# Altium footprint library Silicon Die Holders.PcbLib: 17 footprints (part 1 of 2)
Each footprint in its own frame and in the unit in brackets; x right, y up, seen from the top. Pads: shape width x height; smd on the part's side, far side on the other; paste and mask are expansions set on the pad; w line width, h text height; cw(c..) or ccw(c..) is an arc to the next point about the centre after c.
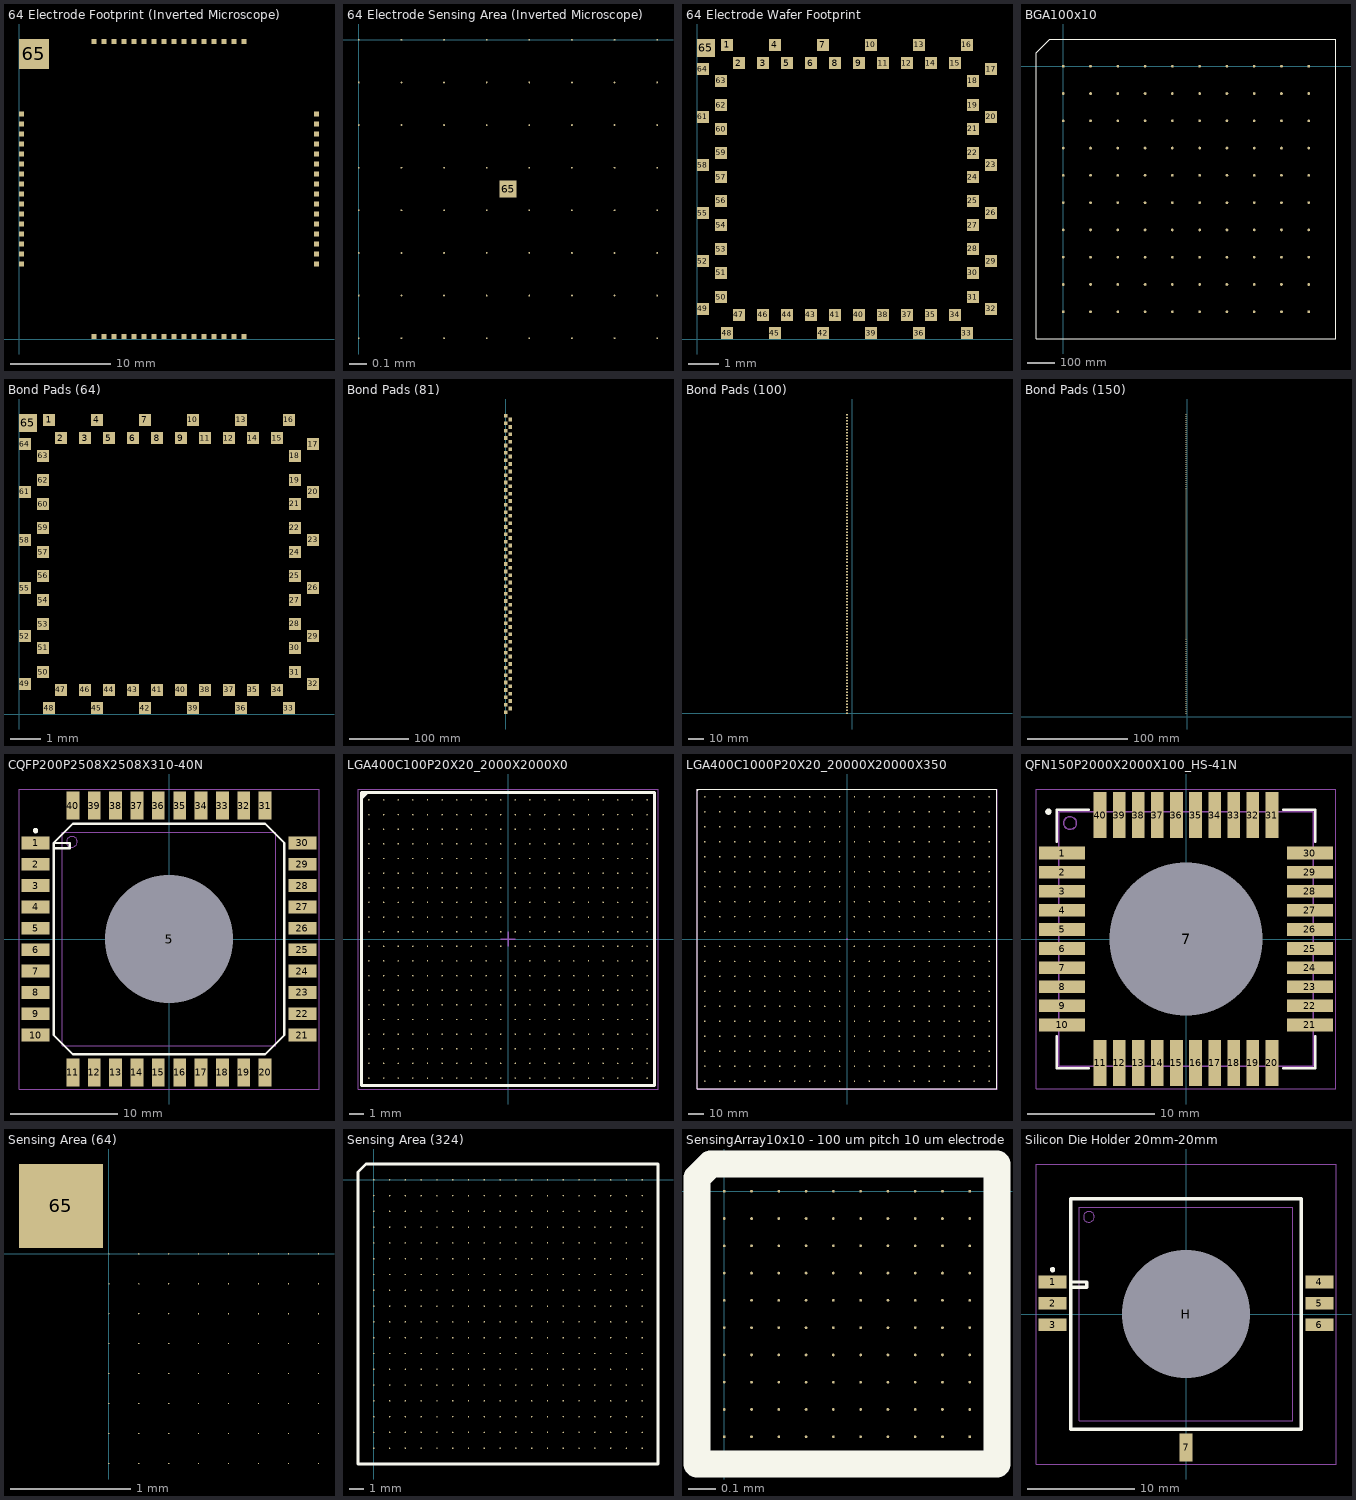
[diagram p0: the footprints below, top view; thin cyan lines are the x and y axes]

## 64 Electrode Footprint (Inverted Microscope) [mm]
pads (65):
  rect 0.5x0.5 smd mask+0: 1(7.5,29.75) 2(8.5,29.75) 3(9.5,29.75) 4(10.5,29.75) 5(11.5,29.75) 6(12.5,29.75) 7(13.5,29.75) 8(14.5,29.75) 9(15.5,29.75) 10(16.5,29.75) 11(17.5,29.75) 12(18.5,29.75) 13(19.5,29.75) 14(20.5,29.75) 15(21.5,29.75) 16(22.5,29.75) 17(29.75,22.5) 18(29.75,21.5) 19(29.75,20.5) 20(29.75,19.5) 21(29.75,18.5) 22(29.75,17.5) 23(29.75,16.5) 24(29.75,15.5) 25(29.75,14.5) 26(29.75,13.5) 27(29.75,12.5) 28(29.75,11.5) 29(29.75,10.5) 30(29.75,9.5) 31(29.75,8.5) 32(29.75,7.5) 33(22.5,0.25) 34(21.5,0.25) 35(20.5,0.25) 36(19.5,0.25) 37(18.5,0.25) 38(17.5,0.25) 39(16.5,0.25) 40(15.5,0.25) 41(14.5,0.25) 42(13.5,0.25) 43(12.5,0.25) 44(11.5,0.25) 45(10.5,0.25) 46(9.5,0.25) 47(8.5,0.25) 48(7.5,0.25) 49(0.25,7.5) 50(0.25,8.5) 51(0.25,9.5) 52(0.25,10.5) 53(0.25,11.5) 54(0.25,12.5) 55(0.25,13.5) 56(0.25,14.5) 57(0.25,15.5) 58(0.25,16.5) 59(0.25,17.5) 60(0.25,18.5) 61(0.25,19.5) 62(0.25,20.5) 63(0.25,21.5) 64(0.25,22.5)
  rect 3x3 smd mask+0: 65(1.5,28.5)

## 64 Electrode Sensing Area (Inverted Microscope) [mm]
pads (65):
  round 0.01 smd mask+0.102: 1(0,0) 2(0.25,0) 3(0.5,0) 4(0.75,0) 5(1,0) 6(1.25,0) 7(1.5,0) 8(1.75,0) 9(0,-0.25) 10(0.25,-0.25) 11(0.5,-0.25) 12(0.75,-0.25) 13(1,-0.25) 14(1.25,-0.25) 15(1.5,-0.25) 16(1.75,-0.25) 17(0,-0.5) 18(0.25,-0.5) 19(0.5,-0.5) 20(0.75,-0.5) 21(1,-0.5) 22(1.25,-0.5) 23(1.5,-0.5) 24(1.75,-0.5) 25(0,-0.75) 26(0.25,-0.75) 27(0.5,-0.75) 28(0.75,-0.75) 29(1,-0.75) 30(1.25,-0.75) 31(1.5,-0.75) 32(1.75,-0.75) 33(0,-1) 34(0.25,-1) 35(0.5,-1) 36(0.75,-1) 37(1,-1) 38(1.25,-1) 39(1.5,-1) 40(1.75,-1) 41(0,-1.25) 42(0.25,-1.25) 43(0.5,-1.25) 44(0.75,-1.25) 45(1,-1.25) 46(1.25,-1.25) 47(1.5,-1.25) 48(1.75,-1.25) 49(0,-1.5) 50(0.25,-1.5) 51(0.5,-1.5) 52(0.75,-1.5) 53(1,-1.5) 54(1.25,-1.5) 55(1.5,-1.5) 56(1.75,-1.5) 57(0,-1.75) 58(0.25,-1.75) 59(0.5,-1.75) 60(0.75,-1.75) 61(1,-1.75) 62(1.25,-1.75) 63(1.5,-1.75) 64(1.75,-1.75)
  rect 0.1x0.1 smd mask+0.102: 65(0.875,-0.875)

## 64 Electrode Wafer Footprint [mm]
pads (65):
  rect 0.4x0.4 smd mask+0: 1(1,9.8) 2(1.4,9.2) 3(2.2,9.2) 4(2.6,9.8) 5(3,9.2) 6(3.8,9.2) 7(4.2,9.8) 8(4.6,9.2) 9(5.4,9.2) 10(5.8,9.8) 11(6.2,9.2) 12(7,9.2) 13(7.4,9.8) 14(7.8,9.2) 15(8.6,9.2) 16(9,9.8) 17(9.8,9) 18(9.2,8.6) 19(9.2,7.8) 20(9.8,7.4) 21(9.2,7) 22(9.2,6.2) 23(9.8,5.8) 24(9.2,5.4) 25(9.2,4.6) 26(9.8,4.2) 27(9.2,3.8) 28(9.2,3) 29(9.8,2.6) 30(9.2,2.2) 31(9.2,1.4) 32(9.8,1) 33(9,0.2) 34(8.6,0.8) 35(7.8,0.8) 36(7.4,0.2) 37(7,0.8) 38(6.2,0.8) 39(5.8,0.2) 40(5.4,0.8) 41(4.6,0.8) 42(4.2,0.2) 43(3.8,0.8) 44(3,0.8) 45(2.6,0.2) 46(2.2,0.8) 47(1.4,0.8) 48(1,0.2) 49(0.2,1) 50(0.8,1.4) 51(0.8,2.2) 52(0.2,2.6) 53(0.8,3) 54(0.8,3.8) 55(0.2,4.2) 56(0.8,4.6) 57(0.8,5.4) 58(0.2,5.8) 59(0.8,6.2) 60(0.8,7) 61(0.2,7.4) 62(0.8,7.8) 63(0.8,8.6) 64(0.2,9)
  rect 0.6x0.6 smd mask+0: 65(0.3,9.7)

## BGA100x10 [mm]
pads (100):
  round 10 smd: A1(0,0) A2(100,0) A3(200,0) A4(300,0) A5(400,0) A6(500,0) A7(600,0) A8(700,0) A9(800,0) A10(900,0) B1(0,-100) B2(100,-100) B3(200,-100) B4(300,-100) B5(400,-100) B6(500,-100) B7(600,-100) B8(700,-100) B9(800,-100) B10(900,-100) C1(0,-200) C2(100,-200) C3(200,-200) C4(300,-200) C5(400,-200) C6(500,-200) C7(600,-200) C8(700,-200) C9(800,-200) C10(900,-200) D1(0,-300) D2(100,-300) D3(200,-300) D4(300,-300) D5(400,-300) D6(500,-300) D7(600,-300) D8(700,-300) D9(800,-300) D10(900,-300) E1(0,-400) E2(100,-400) E3(200,-400) E4(300,-400) E5(400,-400) E6(500,-400) E7(600,-400) E8(700,-400) E9(800,-400) E10(900,-400) F1(0,-500) F2(100,-500) F3(200,-500) F4(300,-500) F5(400,-500) F6(500,-500) F7(600,-500) F8(700,-500) F9(800,-500) F10(900,-500) G1(0,-600) G2(100,-600) G3(200,-600) G4(300,-600) G5(400,-600) G6(500,-600) G7(600,-600) G8(700,-600) G9(800,-600) G10(900,-600) H1(0,-700) H2(100,-700) H3(200,-700) H4(300,-700) H5(400,-700) H6(500,-700) H7(600,-700) H8(700,-700) H9(800,-700) H10(900,-700) J1(0,-800) J2(100,-800) J3(200,-800) J4(300,-800) J5(400,-800) J6(500,-800) J7(600,-800) J8(700,-800) J9(800,-800) J10(900,-800) K1(0,-900) K2(100,-900) K3(200,-900) K4(300,-900) K5(400,-900) K6(500,-900) K7(600,-900) K8(700,-900) K9(800,-900) K10(900,-900)
Top Overlay:
  lines w0.2: -100,-1000 -100,50 -50,100 1000,100 1000,-1000 -100,-1000

## Bond Pads (64) [mm]
pads (65):
  rect 0.4x0.4 smd mask+0: 1(1,9.8) 2(1.4,9.2) 3(2.2,9.2) 4(2.6,9.8) 5(3,9.2) 6(3.8,9.2) 7(4.2,9.8) 8(4.6,9.2) 9(5.4,9.2) 10(5.8,9.8) 11(6.2,9.2) 12(7,9.2) 13(7.4,9.8) 14(7.8,9.2) 15(8.6,9.2) 16(9,9.8) 17(9.8,9) 18(9.2,8.6) 19(9.2,7.8) 20(9.8,7.4) 21(9.2,7) 22(9.2,6.2) 23(9.8,5.8) 24(9.2,5.4) 25(9.2,4.6) 26(9.8,4.2) 27(9.2,3.8) 28(9.2,3) 29(9.8,2.6) 30(9.2,2.2) 31(9.2,1.4) 32(9.8,1) 33(9,0.2) 34(8.6,0.8) 35(7.8,0.8) 36(7.4,0.2) 37(7,0.8) 38(6.2,0.8) 39(5.8,0.2) 40(5.4,0.8) 41(4.6,0.8) 42(4.2,0.2) 43(3.8,0.8) 44(3,0.8) 45(2.6,0.2) 46(2.2,0.8) 47(1.4,0.8) 48(1,0.2) 49(0.2,1) 50(0.8,1.4) 51(0.8,2.2) 52(0.2,2.6) 53(0.8,3) 54(0.8,3.8) 55(0.2,4.2) 56(0.8,4.6) 57(0.8,5.4) 58(0.2,5.8) 59(0.8,6.2) 60(0.8,7) 61(0.2,7.4) 62(0.8,7.8) 63(0.8,8.6) 64(0.2,9)
  rect 0.6x0.6 smd mask+0: 65(0.3,9.7)

## Bond Pads (81) [mm]
pads (81):
  rect 6.25x6.25 smd: 1(0,109) 2(7.25,115.25) 3(0,121.5) 4(7.25,127.75) 5(0,134) 6(7.25,140.25) 7(0,146.5) 8(7.25,152.75) 9(0,159) 10(7.25,165.25) 11(0,171.5) 12(7.25,177.75) 13(0,184) 14(7.25,190.25) 15(0,196.5) 16(7.25,202.75) 17(0,209) 18(7.25,215.25) 19(0,221.5) 20(7.25,227.75) 21(0,234) 22(7.25,240.25) 23(0,246.5) 24(7.25,252.75) 25(0,259) 26(7.25,265.25) 27(0,271.5) 28(7.25,277.75) 29(0,284) 30(7.25,290.25) 31(0,296.5) 32(7.25,302.75) 33(0,309) 34(7.25,315.25) 35(0,321.5) 36(7.25,327.75) 37(0,334) 38(7.25,340.25) 39(0,346.5) 40(7.25,352.75) 41(0,359) 42(7.25,365.25) 43(0,371.5) 44(7.25,377.75) 45(0,384) 46(7.25,390.25) 47(0,396.5) 48(7.25,402.75) 49(0,409) 50(7.25,415.25) 51(0,421.5) 52(7.25,427.75) 53(0,434) 54(7.25,440.25) 55(0,446.5) 56(7.25,452.75) 57(0,459) 58(7.25,465.25) 59(0,471.5) 60(7.25,477.75) 61(0,484) 62(7.25,490.25) 63(0,496.5) 64(7.25,502.75) 65(0,509) 66(7.25,515.25) 67(0,521.5) 68(7.25,527.75) 69(0,534) 70(7.25,540.25) 71(0,546.5) 72(7.25,552.75) 73(0,559) 74(7.25,565.25) 75(0,571.5) 76(7.25,577.75) 77(0,584) 78(7.25,590.25) 79(0,596.5) 80(7.25,602.75) 81(0,609)

## Bond Pads (100) [mm]
height 2.5
pads (100):
  rect 1x1 smd: 1(-3.5,0) 2(-3.5,2) 3(-3.5,4) 4(-3.5,6) 5(-3.5,8) 6(-3.5,10) 7(-3.5,12) 8(-3.5,14) 9(-3.5,16) 10(-3.5,18) 11(-3.5,20) 12(-3.5,22) 13(-3.5,24) 14(-3.5,26) 15(-3.5,28) 16(-3.5,30) 17(-3.5,32) 18(-3.5,34) 19(-3.5,36) 20(-3.5,38) 21(-3.5,40) 22(-3.5,42) 23(-3.5,44) 24(-3.5,46) 25(-3.5,48) 26(-3.5,50) 27(-3.5,52) 28(-3.5,54) 29(-3.5,56) 30(-3.5,58) 31(-3.5,60) 32(-3.5,62) 33(-3.5,64) 34(-3.5,66) 35(-3.5,68) 36(-3.5,70) 37(-3.5,72) 38(-3.5,74) 39(-3.5,76) 40(-3.5,78) 41(-3.5,80) 42(-3.5,82) 43(-3.5,84) 44(-3.5,86) 45(-3.5,88) 46(-3.5,90) 47(-3.5,92) 48(-3.5,94) 49(-3.5,96) 50(-3.5,98) 51(-3.5,100) 52(-3.5,102) 53(-3.5,104) 54(-3.5,106) 55(-3.5,108) 56(-3.5,110) 57(-3.5,112) 58(-3.5,114) 59(-3.5,116) 60(-3.5,118) 61(-3.5,120) 62(-3.5,122) 63(-3.5,124) 64(-3.5,126) 65(-3.5,128) 66(-3.5,130) 67(-3.5,132) 68(-3.5,134) 69(-3.5,136) 70(-3.5,138) 71(-3.5,140) 72(-3.5,142) 73(-3.5,144) 74(-3.5,146) 75(-3.5,148) 76(-3.5,150) 77(-3.5,152) 78(-3.5,154) 79(-3.5,156) 80(-3.5,158) 81(-3.5,160) 82(-3.5,162) 83(-3.5,164) 84(-3.5,166) 85(-3.5,168) 86(-3.5,170) 87(-3.5,172) 88(-3.5,174) 89(-3.5,176) 90(-3.5,178) 91(-3.5,180) 92(-3.5,182) 93(-3.5,184) 94(-3.5,186) 95(-3.5,188) 96(-3.5,190) 97(-3.5,192) 98(-3.5,194) 99(-3.5,196) 100(-3.5,198)

## Bond Pads (150) [mm]
pads (150):
  rect 1x1 smd: 1(-1,3) 2(-1,5) 3(-1,7) 4(-1,9) 5(-1,11) 6(-1,13) 7(-1,15) 8(-1,17) 9(-1,19) 10(-1,21) 11(-1,23) 12(-1,25) 13(-1,27) 14(-1,29) 15(-1,31) 16(-1,33) 17(-1,35) 18(-1,37) 19(-1,39) 20(-1,41) 21(-1,43) 22(-1,45) 23(-1,47) 24(-1,49) 25(-1,51) 26(-1,53) 27(-1,55) 28(-1,57) 29(-1,59) 30(-1,61) 31(-1,63) 32(-1,65) 33(-1,67) 34(-1,69) 35(-1,71) 36(-1,73) 37(-1,75) 38(-1,77) 39(-1,79) 40(-1,81) 41(-1,83) 42(-1,85) 43(-1,87) 44(-1,89) 45(-1,91) 46(-1,93) 47(-1,95) 48(-1,97) 49(-1,99) 50(-1,101) 51(-1,103) 52(-1,105) 53(-1,107) 54(-1,109) 55(-1,111) 56(-1,113) 57(-1,115) 58(-1,117) 59(-1,119) 60(-1,121) 61(-1,123) 62(-1,125) 63(-1,127) 64(-1,129) 65(-1,131) 66(-1,133) 67(-1,135) 68(-1,137) 69(-1,139) 70(-1,141) 71(-1,143) 72(-1,145) 73(-1,147) 74(-1,149) 75(-1,151) 76(-1,153) 77(-1,155) 78(-1,157) 79(-1,159) 80(-1,161) 81(-1,163) 82(-1,165) 83(-1,167) 84(-1,169) 85(-1,171) 86(-1,173) 87(-1,175) 88(-1,177) 89(-1,179) 90(-1,181) 91(-1,183) 92(-1,185) 93(-1,187) 94(-1,189) 95(-1,191) 96(-1,193) 97(-1,195) 98(-1,197) 99(-1,199) 100(-1,201) 101(-1,203) 102(-1,205) 103(-1,207) 104(-1,209) 105(-1,211) 106(-1,213) 107(-1,215) 108(-1,217) 109(-1,219) 110(-1,221) 111(-1,223) 112(-1,225) 113(-1,227) 114(-1,229) 115(-1,231) 116(-1,233) 117(-1,235) 118(-1,237) 119(-1,239) 120(-1,241) 121(-1,243) 122(-1,245) 123(-1,247) 124(-1,249) 125(-1,251) 126(-1,253) 127(-1,255) 128(-1,257) 129(-1,259) 130(-1,261) 131(-1,263) 132(-1,265) 133(-1,267) 134(-1,269) 135(-1,271) 136(-1,273) 137(-1,275) 138(-1,277) 139(-1,279) 140(-1,281) 141(-1,283) 142(-1,285) 143(-1,287) 144(-1,289) 145(-1,291) 146(-1,293) 147(-1,295) 148(-1,297) 149(-1,299) 150(-1,301)

## CQFP200P2508X2508X310-40N [mm] "CQFP, 40-Leads, Body 25.08x25.08mm, Pitch 2.00mm, IPC Medium Density"
height 3.1
pads (41):
  rect 2.6x1.2 smd: 1(-12.5,9) 2(-12.5,7) 3(-12.5,5) 4(-12.5,3) 5(-12.5,1) 6(-12.5,-1) 7(-12.5,-3) 8(-12.5,-5) 9(-12.5,-7) 10(-12.5,-9) 21(12.5,-9) 22(12.5,-7) 23(12.5,-5) 24(12.5,-3) 25(12.5,-1) 26(12.5,1) 27(12.5,3) 28(12.5,5) 29(12.5,7) 30(12.5,9)
  round 1.524 hole 12 unplated: 5(0,0)
  rect 1.2x2.6 smd: 11(-9,-12.5) 12(-7,-12.5) 13(-5,-12.5) 14(-3,-12.5) 15(-1,-12.5) 16(1,-12.5) 17(3,-12.5) 18(5,-12.5) 19(7,-12.5) 20(9,-12.5) 31(9,12.5) 32(7,12.5) 33(5,12.5) 34(3,12.5) 35(1,12.5) 36(-1,12.5) 37(-3,12.5) 38(-5,12.5) 39(-7,12.5) 40(-9,12.5)
Top Overlay:
  circle w0.25: c-12.5,10.15 r0.125
  lines w0.2: -10.8,8.5 -9.3,8.5 -9.3,9 -10.8,9 ; -10.8,9 -10.8,-9 -9,-10.8 9,-10.8 10.8,-9 10.8,9 9,10.8 -9,10.8 -10.8,9
Mechanical 13:
  circle w0.1: c-9.1,9.1 r0.5
  lines w0.1: -10,-10 -10,10 10,10 10,-10 -10,-10
Mechanical 15:
  lines w0.05: -14.05,-14.05 -14.05,14.05 14.05,14.05 14.05,-14.05 -14.05,-14.05
  lines w0.1: -0.5,0 0.5,0 ; 0,-0.5 0,0.5
3D body: height 3.1, standoff 0.25, extent -10,-10 10,10

## LGA400C100P20X20_2000X2000X0 [mm] "LGA, 400-Leads, Body 20.00x20.00mmx0.00mm, Pitch 1.00mm"
pads (400):
  round 0.1 smd: 1(-9.5,9.5) 2(-8.5,9.5) 3(-7.5,9.5) 4(-6.5,9.5) 5(-5.5,9.5) 6(-4.5,9.5) 7(-3.5,9.5) 8(-2.5,9.5) 9(-1.5,9.5) 10(-0.5,9.5) 11(0.5,9.5) 12(1.5,9.5) 13(2.5,9.5) 14(3.5,9.5) 15(4.5,9.5) 16(5.5,9.5) 17(6.5,9.5) 18(7.5,9.5) 19(8.5,9.5) 20(9.5,9.5) 21(-9.5,8.5) 22(-8.5,8.5) 23(-7.5,8.5) 24(-6.5,8.5) 25(-5.5,8.5) 26(-4.5,8.5) 27(-3.5,8.5) 28(-2.5,8.5) 29(-1.5,8.5) 30(-0.5,8.5) 31(0.5,8.5) 32(1.5,8.5) 33(2.5,8.5) 34(3.5,8.5) 35(4.5,8.5) 36(5.5,8.5) 37(6.5,8.5) 38(7.5,8.5) 39(8.5,8.5) 40(9.5,8.5) 41(-9.5,7.5) 42(-8.5,7.5) 43(-7.5,7.5) 44(-6.5,7.5) 45(-5.5,7.5) 46(-4.5,7.5) 47(-3.5,7.5) 48(-2.5,7.5) 49(-1.5,7.5) 50(-0.5,7.5) 51(0.5,7.5) 52(1.5,7.5) 53(2.5,7.5) 54(3.5,7.5) 55(4.5,7.5) 56(5.5,7.5) 57(6.5,7.5) 58(7.5,7.5) 59(8.5,7.5) 60(9.5,7.5) 61(-9.5,6.5) 62(-8.5,6.5) 63(-7.5,6.5) 64(-6.5,6.5) 65(-5.5,6.5) 66(-4.5,6.5) 67(-3.5,6.5) 68(-2.5,6.5) 69(-1.5,6.5) 70(-0.5,6.5) 71(0.5,6.5) 72(1.5,6.5) 73(2.5,6.5) 74(3.5,6.5) 75(4.5,6.5) 76(5.5,6.5) 77(6.5,6.5) 78(7.5,6.5) 79(8.5,6.5) 80(9.5,6.5) 81(-9.5,5.5) 82(-8.5,5.5) 83(-7.5,5.5) 84(-6.5,5.5) 85(-5.5,5.5) 86(-4.5,5.5) 87(-3.5,5.5) 88(-2.5,5.5) 89(-1.5,5.5) 90(-0.5,5.5) 91(0.5,5.5) 92(1.5,5.5) 93(2.5,5.5) 94(3.5,5.5) 95(4.5,5.5) 96(5.5,5.5) 97(6.5,5.5) 98(7.5,5.5) 99(8.5,5.5) 100(9.5,5.5) 101(-9.5,4.5) 102(-8.5,4.5) 103(-7.5,4.5) 104(-6.5,4.5) 105(-5.5,4.5) 106(-4.5,4.5) 107(-3.5,4.5) 108(-2.5,4.5) 109(-1.5,4.5) 110(-0.5,4.5) 111(0.5,4.5) 112(1.5,4.5) 113(2.5,4.5) 114(3.5,4.5) 115(4.5,4.5) 116(5.5,4.5) 117(6.5,4.5) 118(7.5,4.5) 119(8.5,4.5) 120(9.5,4.5) 121(-9.5,3.5) 122(-8.5,3.5) 123(-7.5,3.5) 124(-6.5,3.5) 125(-5.5,3.5) 126(-4.5,3.5) 127(-3.5,3.5) 128(-2.5,3.5) 129(-1.5,3.5) 130(-0.5,3.5) 131(0.5,3.5) 132(1.5,3.5) 133(2.5,3.5) 134(3.5,3.5) 135(4.5,3.5) 136(5.5,3.5) 137(6.5,3.5) 138(7.5,3.5) 139(8.5,3.5) 140(9.5,3.5) 141(-9.5,2.5) 142(-8.5,2.5) 143(-7.5,2.5) 144(-6.5,2.5) 145(-5.5,2.5) 146(-4.5,2.5) 147(-3.5,2.5) 148(-2.5,2.5) 149(-1.5,2.5) 150(-0.5,2.5) 151(0.5,2.5) 152(1.5,2.5) 153(2.5,2.5) 154(3.5,2.5) 155(4.5,2.5) 156(5.5,2.5) 157(6.5,2.5) 158(7.5,2.5) 159(8.5,2.5) 160(9.5,2.5) 161(-9.5,1.5) 162(-8.5,1.5) 163(-7.5,1.5) 164(-6.5,1.5) 165(-5.5,1.5) 166(-4.5,1.5) 167(-3.5,1.5) 168(-2.5,1.5) 169(-1.5,1.5) 170(-0.5,1.5) 171(0.5,1.5) 172(1.5,1.5) 173(2.5,1.5) 174(3.5,1.5) 175(4.5,1.5) 176(5.5,1.5) 177(6.5,1.5) 178(7.5,1.5) 179(8.5,1.5) 180(9.5,1.5) 181(-9.5,0.5) 182(-8.5,0.5) 183(-7.5,0.5) 184(-6.5,0.5) 185(-5.5,0.5) 186(-4.5,0.5) 187(-3.5,0.5) 188(-2.5,0.5) 189(-1.5,0.5) 190(-0.5,0.5) 191(0.5,0.5) 192(1.5,0.5) 193(2.5,0.5) 194(3.5,0.5) 195(4.5,0.5) 196(5.5,0.5) 197(6.5,0.5) 198(7.5,0.5) 199(8.5,0.5) 200(9.5,0.5) 201(-9.5,-0.5) 202(-8.5,-0.5) 203(-7.5,-0.5) 204(-6.5,-0.5) 205(-5.5,-0.5) 206(-4.5,-0.5) 207(-3.5,-0.5) 208(-2.5,-0.5) 209(-1.5,-0.5) 210(-0.5,-0.5) 211(0.5,-0.5) 212(1.5,-0.5) 213(2.5,-0.5) 214(3.5,-0.5) 215(4.5,-0.5) 216(5.5,-0.5) 217(6.5,-0.5) 218(7.5,-0.5) 219(8.5,-0.5) 220(9.5,-0.5) 221(-9.5,-1.5) 222(-8.5,-1.5) 223(-7.5,-1.5) 224(-6.5,-1.5) 225(-5.5,-1.5) 226(-4.5,-1.5) 227(-3.5,-1.5) 228(-2.5,-1.5) 229(-1.5,-1.5) 230(-0.5,-1.5) 231(0.5,-1.5) 232(1.5,-1.5) 233(2.5,-1.5) 234(3.5,-1.5) 235(4.5,-1.5) 236(5.5,-1.5) 237(6.5,-1.5) 238(7.5,-1.5) 239(8.5,-1.5) 240(9.5,-1.5) 241(-9.5,-2.5) 242(-8.5,-2.5) 243(-7.5,-2.5) 244(-6.5,-2.5) 245(-5.5,-2.5) 246(-4.5,-2.5) 247(-3.5,-2.5) 248(-2.5,-2.5) 249(-1.5,-2.5) 250(-0.5,-2.5) 251(0.5,-2.5) 252(1.5,-2.5) 253(2.5,-2.5) 254(3.5,-2.5) 255(4.5,-2.5) 256(5.5,-2.5) 257(6.5,-2.5) 258(7.5,-2.5) 259(8.5,-2.5) 260(9.5,-2.5) 261(-9.5,-3.5) 262(-8.5,-3.5) 263(-7.5,-3.5) 264(-6.5,-3.5) 265(-5.5,-3.5) 266(-4.5,-3.5) 267(-3.5,-3.5) 268(-2.5,-3.5) 269(-1.5,-3.5) 270(-0.5,-3.5) 271(0.5,-3.5) 272(1.5,-3.5) 273(2.5,-3.5) 274(3.5,-3.5) 275(4.5,-3.5) 276(5.5,-3.5) 277(6.5,-3.5) 278(7.5,-3.5) 279(8.5,-3.5) 280(9.5,-3.5) 281(-9.5,-4.5) 282(-8.5,-4.5) 283(-7.5,-4.5) 284(-6.5,-4.5) 285(-5.5,-4.5) 286(-4.5,-4.5) 287(-3.5,-4.5) 288(-2.5,-4.5) 289(-1.5,-4.5) 290(-0.5,-4.5) 291(0.5,-4.5) 292(1.5,-4.5) 293(2.5,-4.5) 294(3.5,-4.5) 295(4.5,-4.5) 296(5.5,-4.5) 297(6.5,-4.5) 298(7.5,-4.5) 299(8.5,-4.5) 300(9.5,-4.5) 301(-9.5,-5.5) 302(-8.5,-5.5) 303(-7.5,-5.5) 304(-6.5,-5.5) 305(-5.5,-5.5) 306(-4.5,-5.5) 307(-3.5,-5.5) 308(-2.5,-5.5) 309(-1.5,-5.5) 310(-0.5,-5.5) 311(0.5,-5.5) 312(1.5,-5.5) 313(2.5,-5.5) 314(3.5,-5.5) 315(4.5,-5.5) 316(5.5,-5.5) 317(6.5,-5.5) 318(7.5,-5.5) 319(8.5,-5.5) 320(9.5,-5.5) 321(-9.5,-6.5) 322(-8.5,-6.5) 323(-7.5,-6.5) 324(-6.5,-6.5) 325(-5.5,-6.5) 326(-4.5,-6.5) 327(-3.5,-6.5) 328(-2.5,-6.5) 329(-1.5,-6.5) 330(-0.5,-6.5) 331(0.5,-6.5) 332(1.5,-6.5) 333(2.5,-6.5) 334(3.5,-6.5) 335(4.5,-6.5) 336(5.5,-6.5) 337(6.5,-6.5) 338(7.5,-6.5) 339(8.5,-6.5) 340(9.5,-6.5) 341(-9.5,-7.5) 342(-8.5,-7.5) 343(-7.5,-7.5) 344(-6.5,-7.5) 345(-5.5,-7.5) 346(-4.5,-7.5) 347(-3.5,-7.5) 348(-2.5,-7.5) 349(-1.5,-7.5) 350(-0.5,-7.5) 351(0.5,-7.5) 352(1.5,-7.5) 353(2.5,-7.5) 354(3.5,-7.5) 355(4.5,-7.5) 356(5.5,-7.5) 357(6.5,-7.5) 358(7.5,-7.5) 359(8.5,-7.5) 360(9.5,-7.5) 361(-9.5,-8.5) 362(-8.5,-8.5) 363(-7.5,-8.5) 364(-6.5,-8.5) 365(-5.5,-8.5) 366(-4.5,-8.5) 367(-3.5,-8.5) 368(-2.5,-8.5) 369(-1.5,-8.5) 370(-0.5,-8.5) 371(0.5,-8.5) 372(1.5,-8.5) 373(2.5,-8.5) 374(3.5,-8.5) 375(4.5,-8.5) 376(5.5,-8.5) 377(6.5,-8.5) 378(7.5,-8.5) 379(8.5,-8.5) 380(9.5,-8.5) 381(-9.5,-9.5) 382(-8.5,-9.5) 383(-7.5,-9.5) 384(-6.5,-9.5) 385(-5.5,-9.5) 386(-4.5,-9.5) 387(-3.5,-9.5) 388(-2.5,-9.5) 389(-1.5,-9.5) 390(-0.5,-9.5) 391(0.5,-9.5) 392(1.5,-9.5) 393(2.5,-9.5) 394(3.5,-9.5) 395(4.5,-9.5) 396(5.5,-9.5) 397(6.5,-9.5) 398(7.5,-9.5) 399(8.5,-9.5) 400(9.5,-9.5)
Top Overlay:
  region: -9.636,10 -10,9.636 -10,10
  lines w0.2: -10,9.636 -9.636,10 ; -10,-10 10,-10 10,10 -10,10 -10,-10
Mechanical 13:
  lines w0.1: -10,-10 10,-10 10,10 -10,10 -10,-10
Mechanical 15:
  lines w0.05: -10.25,-10.25 -10.25,10.25 10.25,10.25 10.25,-10.25 -10.25,-10.25
  lines w0.1: -0.5,0 0.5,0 ; 0,-0.5 0,0.5

## LGA400C1000P20X20_20000X20000X350 [mm] "LGA, 400-Leads, Body 200.00x200.00mmx3.50mm, Pitch 10.00mm (scale x100)"
height 3.5
pads (400):
  round 1 smd: A1(-95,95) A2(-85,95) A3(-75,95) A4(-65,95) A5(-55,95) A6(-45,95) A7(-35,95) A8(-25,95) A9(-15,95) A10(-5,95) A11(5,95) A12(15,95) A13(25,95) A14(35,95) A15(45,95) A16(55,95) A17(65,95) A18(75,95) A19(85,95) A20(95,95) B1(-95,85) B2(-85,85) B3(-75,85) B4(-65,85) B5(-55,85) B6(-45,85) B7(-35,85) B8(-25,85) B9(-15,85) B10(-5,85) B11(5,85) B12(15,85) B13(25,85) B14(35,85) B15(45,85) B16(55,85) B17(65,85) B18(75,85) B19(85,85) B20(95,85) C1(-95,75) C2(-85,75) C3(-75,75) C4(-65,75) C5(-55,75) C6(-45,75) C7(-35,75) C8(-25,75) C9(-15,75) C10(-5,75) C11(5,75) C12(15,75) C13(25,75) C14(35,75) C15(45,75) C16(55,75) C17(65,75) C18(75,75) C19(85,75) C20(95,75) D1(-95,65) D2(-85,65) D3(-75,65) D4(-65,65) D5(-55,65) D6(-45,65) D7(-35,65) D8(-25,65) D9(-15,65) D10(-5,65) D11(5,65) D12(15,65) D13(25,65) D14(35,65) D15(45,65) D16(55,65) D17(65,65) D18(75,65) D19(85,65) D20(95,65) E1(-95,55) E2(-85,55) E3(-75,55) E4(-65,55) E5(-55,55) E6(-45,55) E7(-35,55) E8(-25,55) E9(-15,55) E10(-5,55) E11(5,55) E12(15,55) E13(25,55) E14(35,55) E15(45,55) E16(55,55) E17(65,55) E18(75,55) E19(85,55) E20(95,55) F1(-95,45) F2(-85,45) F3(-75,45) F4(-65,45) F5(-55,45) F6(-45,45) F7(-35,45) F8(-25,45) F9(-15,45) F10(-5,45) F11(5,45) F12(15,45) F13(25,45) F14(35,45) F15(45,45) F16(55,45) F17(65,45) F18(75,45) F19(85,45) F20(95,45) G1(-95,35) G2(-85,35) G3(-75,35) G4(-65,35) G5(-55,35) G6(-45,35) G7(-35,35) G8(-25,35) G9(-15,35) G10(-5,35) G11(5,35) G12(15,35) G13(25,35) G14(35,35) G15(45,35) G16(55,35) G17(65,35) G18(75,35) G19(85,35) G20(95,35) H1(-95,25) H2(-85,25) H3(-75,25) H4(-65,25) H5(-55,25) H6(-45,25) H7(-35,25) H8(-25,25) H9(-15,25) H10(-5,25) H11(5,25) H12(15,25) H13(25,25) H14(35,25) H15(45,25) H16(55,25) H17(65,25) H18(75,25) H19(85,25) H20(95,25) J1(-95,15) J2(-85,15) J3(-75,15) J4(-65,15) J5(-55,15) J6(-45,15) J7(-35,15) J8(-25,15) J9(-15,15) J10(-5,15) J11(5,15) J12(15,15) J13(25,15) J14(35,15) J15(45,15) J16(55,15) J17(65,15) J18(75,15) J19(85,15) J20(95,15) K1(-95,5) K2(-85,5) K3(-75,5) K4(-65,5) K5(-55,5) K6(-45,5) K7(-35,5) K8(-25,5) K9(-15,5) K10(-5,5) K11(5,5) K12(15,5) K13(25,5) K14(35,5) K15(45,5) K16(55,5) K17(65,5) K18(75,5) K19(85,5) K20(95,5) L1(-95,-5) L2(-85,-5) L3(-75,-5) L4(-65,-5) L5(-55,-5) L6(-45,-5) L7(-35,-5) L8(-25,-5) L9(-15,-5) L10(-5,-5) L11(5,-5) L12(15,-5) L13(25,-5) L14(35,-5) L15(45,-5) L16(55,-5) L17(65,-5) L18(75,-5) L19(85,-5) L20(95,-5) M1(-95,-15) M2(-85,-15) M3(-75,-15) M4(-65,-15) M5(-55,-15) M6(-45,-15) M7(-35,-15) M8(-25,-15) M9(-15,-15) M10(-5,-15) M11(5,-15) M12(15,-15) M13(25,-15) M14(35,-15) M15(45,-15) M16(55,-15) M17(65,-15) M18(75,-15) M19(85,-15) M20(95,-15) N1(-95,-25) N2(-85,-25) N3(-75,-25) N4(-65,-25) N5(-55,-25) N6(-45,-25) N7(-35,-25) N8(-25,-25) N9(-15,-25) N10(-5,-25) N11(5,-25) N12(15,-25) N13(25,-25) N14(35,-25) N15(45,-25) N16(55,-25) N17(65,-25) N18(75,-25) N19(85,-25) N20(95,-25) P1(-95,-35) P2(-85,-35) P3(-75,-35) P4(-65,-35) P5(-55,-35) P6(-45,-35) P7(-35,-35) P8(-25,-35) P9(-15,-35) P10(-5,-35) P11(5,-35) P12(15,-35) P13(25,-35) P14(35,-35) P15(45,-35) P16(55,-35) P17(65,-35) P18(75,-35) P19(85,-35) P20(95,-35) R1(-95,-45) R2(-85,-45) R3(-75,-45) R4(-65,-45) R5(-55,-45) R6(-45,-45) R7(-35,-45) R8(-25,-45) R9(-15,-45) R10(-5,-45) R11(5,-45) R12(15,-45) R13(25,-45) R14(35,-45) R15(45,-45) R16(55,-45) R17(65,-45) R18(75,-45) R19(85,-45) R20(95,-45) T1(-95,-55) T2(-85,-55) T3(-75,-55) T4(-65,-55) T5(-55,-55) T6(-45,-55) T7(-35,-55) T8(-25,-55) T9(-15,-55) T10(-5,-55) T11(5,-55) T12(15,-55) T13(25,-55) T14(35,-55) T15(45,-55) T16(55,-55) T17(65,-55) T18(75,-55) T19(85,-55) T20(95,-55) U1(-95,-65) U2(-85,-65) U3(-75,-65) U4(-65,-65) U5(-55,-65) U6(-45,-65) U7(-35,-65) U8(-25,-65) U9(-15,-65) U10(-5,-65) U11(5,-65) U12(15,-65) U13(25,-65) U14(35,-65) U15(45,-65) U16(55,-65) U17(65,-65) U18(75,-65) U19(85,-65) U20(95,-65) V1(-95,-75) V2(-85,-75) V3(-75,-75) V4(-65,-75) V5(-55,-75) V6(-45,-75) V7(-35,-75) V8(-25,-75) V9(-15,-75) V10(-5,-75) V11(5,-75) V12(15,-75) V13(25,-75) V14(35,-75) V15(45,-75) V16(55,-75) V17(65,-75) V18(75,-75) V19(85,-75) V20(95,-75) W1(-95,-85) W2(-85,-85) W3(-75,-85) W4(-65,-85) W5(-55,-85) W6(-45,-85) W7(-35,-85) W8(-25,-85) W9(-15,-85) W10(-5,-85) W11(5,-85) W12(15,-85) W13(25,-85) W14(35,-85) W15(45,-85) W16(55,-85) W17(65,-85) W18(75,-85) W19(85,-85) W20(95,-85) Y1(-95,-95) Y2(-85,-95) Y3(-75,-95) Y4(-65,-95) Y5(-55,-95) Y6(-45,-95) Y7(-35,-95) Y8(-25,-95) Y9(-15,-95) Y10(-5,-95) Y11(5,-95) Y12(15,-95) Y13(25,-95) Y14(35,-95) Y15(45,-95) Y16(55,-95) Y17(65,-95) Y18(75,-95) Y19(85,-95) Y20(95,-95)
Top Overlay:
  region: -99,100 -100,99 -100,100
  lines w0.2: -100,99 -99,100 ; -100,-100 -100,100 100,100 100,-100 -100,-100
Mechanical 13:
  lines w0.1: -100,-100 -100,100 100,100 100,-100 -100,-100
Mechanical 15:
  lines w0.05: -100.25,-100.25 -100.25,100.25 100.25,100.25 100.25,-100.25 -100.25,-100.25
  lines w0.1: -0.5,0 0.5,0 ; 0,-0.5 0,0.5

## QFN150P2000X2000X100_HS-41N [mm] "QFN, 40-Leads, Body 20.00x20.00mm, Pitch 1.50mm, Thermal Pad 4.00x2.20mm, IPC Medium Density"
height 1
pads (41):
  rect 3.6x1 smd: 1(-9.725,6.75) 2(-9.725,5.25) 3(-9.725,3.75) 4(-9.725,2.25) 5(-9.725,0.75) 6(-9.725,-0.75) 7(-9.725,-2.25) 8(-9.725,-3.75) 9(-9.725,-5.25) 10(-9.725,-6.75) 21(9.725,-6.75) 22(9.725,-5.25) 23(9.725,-3.75) 24(9.725,-2.25) 25(9.725,-0.75) 26(9.725,0.75) 27(9.725,2.25) 28(9.725,3.75) 29(9.725,5.25) 30(9.725,6.75)
  round 1.524 hole 12: 7(0,0)
  rect 1x3.6 smd: 11(-6.75,-9.725) 12(-5.25,-9.725) 13(-3.75,-9.725) 14(-2.25,-9.725) 15(-0.75,-9.725) 16(0.75,-9.725) 17(2.25,-9.725) 18(3.75,-9.725) 19(5.25,-9.725) 20(6.75,-9.725) 31(6.75,9.725) 32(5.25,9.725) 33(3.75,9.725) 34(2.25,9.725) 35(0.75,9.725) 36(-0.75,9.725) 37(-2.25,9.725) 38(-3.75,9.725) 39(-5.25,9.725) 40(-6.75,9.725)
Top Overlay:
  circle w0.25: c-10.8,10 r0.125
  lines w0.2: -10.15,-7.65 -10.15,-10.15 -7.65,-10.15 ; -10.15,7.65 -10.15,10.15 -7.65,10.15 ; 7.65,-10.15 10.15,-10.15 10.15,-7.65 ; 7.65,10.15 10.15,10.15 10.15,7.65
Mechanical 13:
  circle w0.1: c-9.1,9.1 r0.5
  lines w0.1: -10,-10 -10,10 10,10 10,-10 -10,-10
Mechanical 15:
  lines w0.05: -11.775,-11.775 -11.775,11.775 11.775,11.775 11.775,-11.775 -11.775,-11.775
  lines w0.1: -0.5,0 0.5,0 ; 0,-0.5 0,0.5
3D body: height 1, standoff 0.01, extent -10,-10 10,10

## Sensing Area (64) [mm]
pads (65):
  round 0.01 smd mask+0.102: 1(0,0) 2(0.25,0) 3(0.5,0) 4(0.75,0) 5(1,0) 6(1.25,0) 7(1.5,0) 8(1.75,0) 9(0,-0.25) 10(0.25,-0.25) 11(0.5,-0.25) 12(0.75,-0.25) 13(1,-0.25) 14(1.25,-0.25) 15(1.5,-0.25) 16(1.75,-0.25) 17(0,-0.5) 18(0.25,-0.5) 19(0.5,-0.5) 20(0.75,-0.5) 21(1,-0.5) 22(1.25,-0.5) 23(1.5,-0.5) 24(1.75,-0.5) 25(0,-0.75) 26(0.25,-0.75) 27(0.5,-0.75) 28(0.75,-0.75) 29(1,-0.75) 30(1.25,-0.75) 31(1.5,-0.75) 32(1.75,-0.75) 33(0,-1) 34(0.25,-1) 35(0.5,-1) 36(0.75,-1) 37(1,-1) 38(1.25,-1) 39(1.5,-1) 40(1.75,-1) 41(0,-1.25) 42(0.25,-1.25) 43(0.5,-1.25) 44(0.75,-1.25) 45(1,-1.25) 46(1.25,-1.25) 47(1.5,-1.25) 48(1.75,-1.25) 49(0,-1.5) 50(0.25,-1.5) 51(0.5,-1.5) 52(0.75,-1.5) 53(1,-1.5) 54(1.25,-1.5) 55(1.5,-1.5) 56(1.75,-1.5) 57(0,-1.75) 58(0.25,-1.75) 59(0.5,-1.75) 60(0.75,-1.75) 61(1,-1.75) 62(1.25,-1.75) 63(1.5,-1.75) 64(1.75,-1.75)
  rect 0.7x0.7 smd mask+0.102: 65(-0.4,0.4)

## Sensing Area (324) [mm]
pads (324):
  round 0.1 smd: 1(0,0) 2(1.111,0) 3(2.222,0) 4(3.333,0) 5(4.444,0) 6(5.556,0) 7(6.667,0) 8(7.778,0) 9(8.889,0) 10(10,0) 11(11.111,0) 12(12.222,0) 13(13.333,0) 14(14.444,0) 15(15.556,0) 16(16.667,0) 17(17.778,0) 18(18.889,0) 19(0,-1.111) 20(1.111,-1.111) 21(2.222,-1.111) 22(3.333,-1.111) 23(4.444,-1.111) 24(5.556,-1.111) 25(6.667,-1.111) 26(7.778,-1.111) 27(8.889,-1.111) 28(10,-1.111) 29(11.111,-1.111) 30(12.222,-1.111) 31(13.333,-1.111) 32(14.444,-1.111) 33(15.556,-1.111) 34(16.667,-1.111) 35(17.778,-1.111) 36(18.889,-1.111) 37(0,-2.222) 38(1.111,-2.222) 39(2.222,-2.222) 40(3.333,-2.222) 41(4.444,-2.222) 42(5.556,-2.222) 43(6.667,-2.222) 44(7.778,-2.222) 45(8.889,-2.222) 46(10,-2.222) 47(11.111,-2.222) 48(12.222,-2.222) 49(13.333,-2.222) 50(14.444,-2.222) 51(15.556,-2.222) 52(16.667,-2.222) 53(17.778,-2.222) 54(18.889,-2.222) 55(0,-3.333) 56(1.111,-3.333) 57(2.222,-3.333) 58(3.333,-3.333) 59(4.444,-3.333) 60(5.556,-3.333) 61(6.667,-3.333) 62(7.778,-3.333) 63(8.889,-3.333) 64(10,-3.333) 65(11.111,-3.333) 66(12.222,-3.333) 67(13.333,-3.333) 68(14.444,-3.333) 69(15.556,-3.333) 70(16.667,-3.333) 71(17.778,-3.333) 72(18.889,-3.333) 73(0,-4.444) 74(1.111,-4.444) 75(2.222,-4.444) 76(3.333,-4.444) 77(4.444,-4.444) 78(5.556,-4.444) 79(6.667,-4.444) 80(7.778,-4.444) 81(8.889,-4.444) 82(10,-4.444) 83(11.111,-4.444) 84(12.222,-4.444) 85(13.333,-4.444) 86(14.444,-4.444) 87(15.556,-4.444) 88(16.667,-4.444) 89(17.778,-4.444) 90(18.889,-4.444) 91(0,-5.556) 92(1.111,-5.556) 93(2.222,-5.556) 94(3.333,-5.556) 95(4.444,-5.556) 96(5.556,-5.556) 97(6.667,-5.556) 98(7.778,-5.556) 99(8.889,-5.556) 100(10,-5.556) 101(11.111,-5.556) 102(12.222,-5.556) 103(13.333,-5.556) 104(14.444,-5.556) 105(15.556,-5.556) 106(16.667,-5.556) 107(17.778,-5.556) 108(18.889,-5.556) 109(0,-6.667) 110(1.111,-6.667) 111(2.222,-6.667) 112(3.333,-6.667) 113(4.444,-6.667) 114(5.556,-6.667) 115(6.667,-6.667) 116(7.778,-6.667) 117(8.889,-6.667) 118(10,-6.667) 119(11.111,-6.667) 120(12.222,-6.667) 121(13.333,-6.667) 122(14.444,-6.667) 123(15.556,-6.667) 124(16.667,-6.667) 125(17.778,-6.667) 126(18.889,-6.667) 127(0,-7.778) 128(1.111,-7.778) 129(2.222,-7.778) 130(3.333,-7.778) 131(4.444,-7.778) 132(5.556,-7.778) 133(6.667,-7.778) 134(7.778,-7.778) 135(8.889,-7.778) 136(10,-7.778) 137(11.111,-7.778) 138(12.222,-7.778) 139(13.333,-7.778) 140(14.444,-7.778) 141(15.556,-7.778) 142(16.667,-7.778) 143(17.778,-7.778) 144(18.889,-7.778) 145(0,-8.889) 146(1.111,-8.889) 147(2.222,-8.889) 148(3.333,-8.889) 149(4.444,-8.889) 150(5.556,-8.889) 151(6.667,-8.889) 152(7.778,-8.889) 153(8.889,-8.889) 154(10,-8.889) 155(11.111,-8.889) 156(12.222,-8.889) 157(13.333,-8.889) 158(14.444,-8.889) 159(15.556,-8.889) 160(16.667,-8.889) 161(17.778,-8.889) 162(18.889,-8.889) 163(0,-10) 164(1.111,-10) 165(2.222,-10) 166(3.333,-10) 167(4.444,-10) 168(5.556,-10) 169(6.667,-10) 170(7.778,-10) 171(8.889,-10) 172(10,-10) 173(11.111,-10) 174(12.222,-10) 175(13.333,-10) 176(14.444,-10) 177(15.556,-10) 178(16.667,-10) 179(17.778,-10) 180(18.889,-10) 181(0,-11.111) 182(1.111,-11.111) 183(2.222,-11.111) 184(3.333,-11.111) 185(4.444,-11.111) 186(5.556,-11.111) 187(6.667,-11.111) 188(7.778,-11.111) 189(8.889,-11.111) 190(10,-11.111) 191(11.111,-11.111) 192(12.222,-11.111) 193(13.333,-11.111) 194(14.444,-11.111) 195(15.556,-11.111) 196(16.667,-11.111) 197(17.778,-11.111) 198(18.889,-11.111) 199(0,-12.222) 200(1.111,-12.222) 201(2.222,-12.222) 202(3.333,-12.222) 203(4.444,-12.222) 204(5.556,-12.222) 205(6.667,-12.222) 206(7.778,-12.222) 207(8.889,-12.222) 208(10,-12.222) 209(11.111,-12.222) 210(12.222,-12.222) 211(13.333,-12.222) 212(14.444,-12.222) 213(15.556,-12.222) 214(16.667,-12.222) 215(17.778,-12.222) 216(18.889,-12.222) 217(0,-13.333) 218(1.111,-13.333) 219(2.222,-13.333) 220(3.333,-13.333) 221(4.444,-13.333) 222(5.556,-13.333) 223(6.667,-13.333) 224(7.778,-13.333) 225(8.889,-13.333) 226(10,-13.333) 227(11.111,-13.333) 228(12.222,-13.333) 229(13.333,-13.333) 230(14.444,-13.333) 231(15.556,-13.333) 232(16.667,-13.333) 233(17.778,-13.333) 234(18.889,-13.333) 235(0,-14.444) 236(1.111,-14.444) 237(2.222,-14.444) 238(3.333,-14.444) 239(4.444,-14.444) 240(5.556,-14.444) 241(6.667,-14.444) 242(7.778,-14.444) 243(8.889,-14.444) 244(10,-14.444) 245(11.111,-14.444) 246(12.222,-14.444) 247(13.333,-14.444) 248(14.444,-14.444) 249(15.556,-14.444) 250(16.667,-14.444) 251(17.778,-14.444) 252(18.889,-14.444) 253(0,-15.556) 254(1.111,-15.556) 255(2.222,-15.556) 256(3.333,-15.556) 257(4.444,-15.556) 258(5.556,-15.556) 259(6.667,-15.556) 260(7.778,-15.556) 261(8.889,-15.556) 262(10,-15.556) 263(11.111,-15.556) 264(12.222,-15.556) 265(13.333,-15.556) 266(14.444,-15.556) 267(15.556,-15.556) 268(16.667,-15.556) 269(17.778,-15.556) 270(18.889,-15.556) 271(0,-16.667) 272(1.111,-16.667) 273(2.222,-16.667) 274(3.333,-16.667) 275(4.444,-16.667) 276(5.556,-16.667) 277(6.667,-16.667) 278(7.778,-16.667) 279(8.889,-16.667) 280(10,-16.667) 281(11.111,-16.667) 282(12.222,-16.667) 283(13.333,-16.667) 284(14.444,-16.667) 285(15.556,-16.667) 286(16.667,-16.667) 287(17.778,-16.667) 288(18.889,-16.667) 289(0,-17.778) 290(1.111,-17.778) 291(2.222,-17.778) 292(3.333,-17.778) 293(4.444,-17.778) 294(5.556,-17.778) 295(6.667,-17.778) 296(7.778,-17.778) 297(8.889,-17.778) 298(10,-17.778) 299(11.111,-17.778) 300(12.222,-17.778) 301(13.333,-17.778) 302(14.444,-17.778) 303(15.556,-17.778) 304(16.667,-17.778) 305(17.778,-17.778) 306(18.889,-17.778) 307(0,-18.889) 308(1.111,-18.889) 309(2.222,-18.889) 310(3.333,-18.889) 311(4.444,-18.889) 312(5.556,-18.889) 313(6.667,-18.889) 314(7.778,-18.889) 315(8.889,-18.889) 316(10,-18.889) 317(11.111,-18.889) 318(12.222,-18.889) 319(13.333,-18.889) 320(14.444,-18.889) 321(15.556,-18.889) 322(16.667,-18.889) 323(17.778,-18.889) 324(18.889,-18.889)
Top Overlay:
  lines w0.2: -1.111,-20 20,-20 20,1.111 -0.556,1.111 -1.111,0.556 -1.111,-20

## SensingArray10x10 - 100 um pitch 10 um electrode size [mm]
pads (100):
  round 0.01 smd: A1(0,0) A2(0.1,0) A3(0.2,0) A4(0.3,0) A5(0.4,0) A6(0.5,0) A7(0.6,0) A8(0.7,0) A9(0.8,0) A10(0.9,0) B1(0,-0.1) B2(0.1,-0.1) B3(0.2,-0.1) B4(0.3,-0.1) B5(0.4,-0.1) B6(0.5,-0.1) B7(0.6,-0.1) B8(0.7,-0.1) B9(0.8,-0.1) B10(0.9,-0.1) C1(0,-0.2) C2(0.1,-0.2) C3(0.2,-0.2) C4(0.3,-0.2) C5(0.4,-0.2) C6(0.5,-0.2) C7(0.6,-0.2) C8(0.7,-0.2) C9(0.8,-0.2) C10(0.9,-0.2) D1(0,-0.3) D2(0.1,-0.3) D3(0.2,-0.3) D4(0.3,-0.3) D5(0.4,-0.3) D6(0.5,-0.3) D7(0.6,-0.3) D8(0.7,-0.3) D9(0.8,-0.3) D10(0.9,-0.3) E1(0,-0.4) E2(0.1,-0.4) E3(0.2,-0.4) E4(0.3,-0.4) E5(0.4,-0.4) E6(0.5,-0.4) E7(0.6,-0.4) E8(0.7,-0.4) E9(0.8,-0.4) E10(0.9,-0.4) F1(0,-0.5) F2(0.1,-0.5) F3(0.2,-0.5) F4(0.3,-0.5) F5(0.4,-0.5) F6(0.5,-0.5) F7(0.6,-0.5) F8(0.7,-0.5) F9(0.8,-0.5) F10(0.9,-0.5) G1(0,-0.6) G2(0.1,-0.6) G3(0.2,-0.6) G4(0.3,-0.6) G5(0.4,-0.6) G6(0.5,-0.6) G7(0.6,-0.6) G8(0.7,-0.6) G9(0.8,-0.6) G10(0.9,-0.6) H1(0,-0.7) H2(0.1,-0.7) H3(0.2,-0.7) H4(0.3,-0.7) H5(0.4,-0.7) H6(0.5,-0.7) H7(0.6,-0.7) H8(0.7,-0.7) H9(0.8,-0.7) H10(0.9,-0.7) J1(0,-0.8) J2(0.1,-0.8) J3(0.2,-0.8) J4(0.3,-0.8) J5(0.4,-0.8) J6(0.5,-0.8) J7(0.6,-0.8) J8(0.7,-0.8) J9(0.8,-0.8) J10(0.9,-0.8) K1(0,-0.9) K2(0.1,-0.9) K3(0.2,-0.9) K4(0.3,-0.9) K5(0.4,-0.9) K6(0.5,-0.9) K7(0.6,-0.9) K8(0.7,-0.9) K9(0.8,-0.9) K10(0.9,-0.9)
Top Overlay:
  lines w0.1: -0.1,-1 -0.1,0.05 -0.05,0.1 1,0.1 1,-1 -0.1,-1

## Silicon Die Holder 20mm-20mm [mm] "CQFP, 7-Leads, Body 25.08x25.08mm, Pitch 2.00mm, IPC Medium Density"
height 3.1
pads (8):
  rect 2.6x1.2 smd: 1(-12.5,3) 2(-12.5,1) 3(-12.5,-1) 4(12.5,3) 5(12.5,1) 6(12.5,-1)
  rect 1.2x2.6 smd: 7(0,-12.5)
  round 1.524 hole 12 unplated: H(0,0)
Top Overlay:
  circle w0.25: c-12.5,4.15 r0.125
  lines w0.3: -10.8,2.5 -9.3,2.5 -9.3,3 -10.8,3 ; -10.8,-10.8 10.8,-10.8 10.8,10.8 -10.8,10.8 -10.8,-10.8
Mechanical 13:
  circle w0.1: c-9.1,9.1 r0.5
  lines w0.1: -10,-10 10,-10 10,10 -10,10 -10,-10
Mechanical 15:
  lines w0.05: -14.05,-14.05 14.05,-14.05 14.05,14.05 -14.05,14.05 -14.05,-14.05
  lines w0.1: -0.5,0 0.5,0 ; 0,-0.5 0,0.5
3D body: height 3.1, standoff 0.25, extent -10,-10 10,10